# Altium footprint library control.PcbLib: 24 footprints (part 2 of 2)
Each footprint in its own frame and in the unit in brackets; x right, y up, seen from the top. Pads: shape width x height; smd on the part's side, far side on the other; paste and mask are expansions set on the pad; w line width, h text height; cw(c..) or ccw(c..) is an arc to the next point about the centre after c.
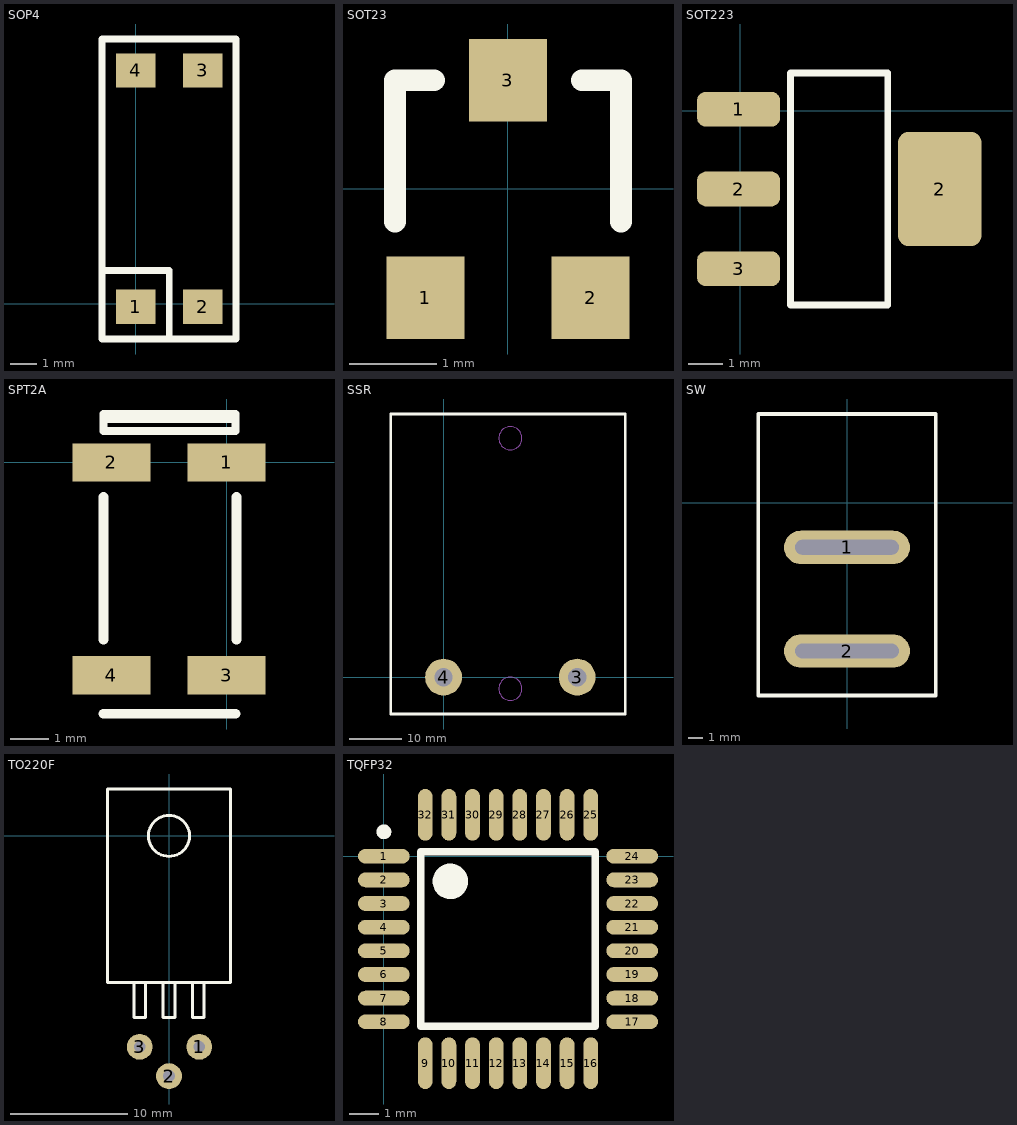
[diagram p1: the footprints below, top view; thin cyan lines are the x and y axes]

## SOP4 [mm] "FOD817"
pads (4):
  rect 1.5x1.3 smd: 1(0,-0.11) 2(2.54,-0.11) 3(2.54,8.89) 4(0,8.89)
Top Overlay:
  lines w0.254: -1.27,1.27 1.27,1.27 1.27,-1.18 ; -1.29,-1.34 3.81,-1.34 3.81,10.09 -1.29,10.09 -1.29,-1.34

## SOT23 [mm] "SOT23"
height 1.1
pads (3):
  rect 0.9x0.95 smd: 1(-0.95,-1.25) 2(0.95,-1.25) 3(0,1.25)
Top Overlay:
  lines w0.25: -1.3,-0.375 -1.3,1.25 -0.85,1.25 ; 0.85,1.25 1.3,1.25 1.3,-0.375

## SOT223 [mm]
pads (4):
  rrect50% 2.4x1 smd: 1(-0.05,0.05) 2(-0.05,-2.25) 3(-0.05,-4.55)
  rrect25% 2.4x3.3 smd: 2(5.75,-2.25)
Top Overlay:
  lines w0.2: 1.45,-5.6 1.45,1.1 4.25,1.1 4.25,-5.6 1.45,-5.6

## SPT2A [mil]
pads (4):
  rect 79x39 smd: 1(0,0) 2(-117,0) 3(0,-216) 4(-117,-216)
Top Overlay:
  lines w8: -125,44.29 9,44.29 ; -125,49.21 -125,32 9,32 9,49.21 ; -125,49.21 9,49.21 ; -125,49.21 9,49.21
  lines w9.84: -125,-255.31 9,-255.31 ; -125,-180 -125,-35 ; 10,-180 10,-35

## SSR [mm] "SSR"
pads (2):
  round 7 hole 3.5: 3(25.4,0) 4(0,0)
Top Overlay:
  lines w0.5: -10,-7 34.5,-7 34.5,50 -10,50 -10,-7
Mechanical 1:
  circle w0.1: c12.7,-2.2 r2.2
  circle w0.1: c12.7,45.4 r2.2

## SW [mm] "Power Switch"
pads (2):
  oval 8.5x2.25 hole 1 slot 7 at 0 deg: 1(0,-3) 2(0,-10)
Top Overlay:
  lines w0.25: -6,-13 -6,6 6,6 6,-13 -6,-13

## TO220F [mm] "TO220 Flat Reverse"
height 25
pads (3):
  round 2.2 hole 1: 1(2.58,-18) 2(0,-20.5) 3(-2.5,-18)
Top Overlay:
  circle w0.254: c0,0 r1.75
  lines w0.254: -3,-12.5 -3,-15.5 -2,-15.5 -2,-12.5 ; -0.5,-12.5 -0.5,-15.5 0.5,-15.5 0.5,-12.5 ; 2,-12.5 2,-15.5 3,-15.5 3,-12.5 ; -5.25,-12.5 -5.25,4 5.25,4 5.25,-12.5 -5.25,-12.5

## TQFP32 [mm]
pads (32):
  oval 1.75x0.5 smd: 1(0,0) 2(0,-0.8) 3(0,-1.6) 4(0,-2.4) 5(0,-3.2) 6(0,-4) 7(0,-4.8) 8(0,-5.6) 17(8.4,-5.6) 18(8.4,-4.8) 19(8.4,-4) 20(8.4,-3.2) 21(8.4,-2.4) 22(8.4,-1.6) 23(8.4,-0.8) 24(8.4,0)
  oval 0.5x1.75 smd: 9(1.4,-7) 10(2.2,-7) 11(3,-7) 12(3.8,-7) 13(4.6,-7) 14(5.4,-7) 15(6.2,-7) 16(7,-7) 25(7,1.4) 26(6.2,1.4) 27(5.4,1.4) 28(4.6,1.4) 29(3.8,1.4) 30(3,1.4) 31(2.2,1.4) 32(1.4,1.4)
Top Overlay:
  circle w0.25: c0,0.825 r0.125
  circle w0.6: c2.25,-0.85 r0.3
  lines w0.25: 1.25,-5.75 1.25,0.15 7.15,0.15 7.15,-5.75 1.25,-5.75